# EAGLE library part ESP32-S3-WROOM-2-N32R8V (library LARS_409_MK)
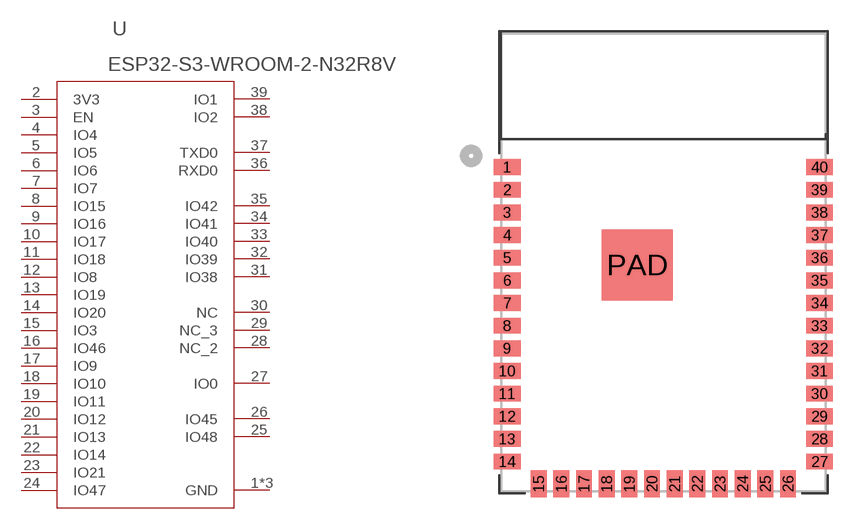
[diagram p16: symbol with the pads of IC40_ESP32-S3-WROOM-2-N32R8V_E; footprint IC40_ESP32-S3-WROOM-2-N32R8V_E]

Designator prefix U

## ESP32-S3-WROOM-2-N32R8V (COPYRIGHT: Copyright (C) 2024 Ultra Librarian. All rights reserved.; MANUFACTURER_PART_NUMBER: ESP32-S3-WROOM-2-N32R8V; MFR_NAME: Espressif Systems)  [IC40_ESP32-S3-WROOM-2-N32R8V_E]
1  GND  pas
2  3V3  pas
3  EN  pas
4  IO4
5  IO5
6  IO6
7  IO7
8  IO15
9  IO16
10  IO17
11  IO18
12  IO8
13  IO19
14  IO20
15  IO3
16  IO46
17  IO9
18  IO10
19  IO11
20  IO12
21  IO13
22  IO14
23  IO21
24  IO47
25  IO48
26  IO45
27  IO0
28  NC_2  nc
29  NC_3  nc
30  NC  nc
31  IO38
32  IO39
33  IO40
34  IO41
35  IO42
36  RXD0
37  TXD0
38  IO2
39  IO1
40  GND  pas
PAD  GND  pas

## Footprint IC40_ESP32-S3-WROOM-2-N32R8V_E (pad centres in mm)
smd 1.499 x 0.889: 1 -8.75,5.337; 2 -8.75,4.067; 3 -8.75,2.797; 4 -8.75,1.527; 5 -8.75,0.257; 6 -8.75,-1.013; 7 -8.75,-2.283; 8 -8.75,-3.553; 9 -8.75,-4.823; 10 -8.75,-6.093; 11 -8.75,-7.363; 12 -8.75,-8.633; 13 -8.75,-9.903; 14 -8.75,-11.173; 27 8.75,-11.173; 28 8.75,-9.903; 29 8.75,-8.633; 30 8.75,-7.363; 31 8.75,-6.093; 32 8.75,-4.823; 33 8.75,-3.553; 34 8.75,-2.283; 35 8.75,-1.013; 36 8.75,0.257; 37 8.75,1.527; 38 8.75,2.797; 39 8.75,4.067; 40 8.75,5.337
smd 0.889 x 1.499: 15 -6.985,-12.423; 16 -5.715,-12.423; 17 -4.445,-12.423; 18 -3.175,-12.423; 19 -1.905,-12.423; 20 -0.635,-12.423; 21 0.635,-12.423; 22 1.905,-12.423; 23 3.175,-12.423; 24 4.445,-12.423; 25 5.715,-12.423; 26 6.985,-12.423
smd 4 x 4: PAD -1.46,-0.15